# Altium footprint library spdt7101.PcbLib: 3 footprints
Each footprint in its own frame and in the unit in brackets; x right, y up, seen from the top. Pads: shape width x height; smd on the part's side, far side on the other; paste and mask are expansions set on the pad; w line width, h text height; cw(c..) or ccw(c..) is an arc to the next point about the centre after c.
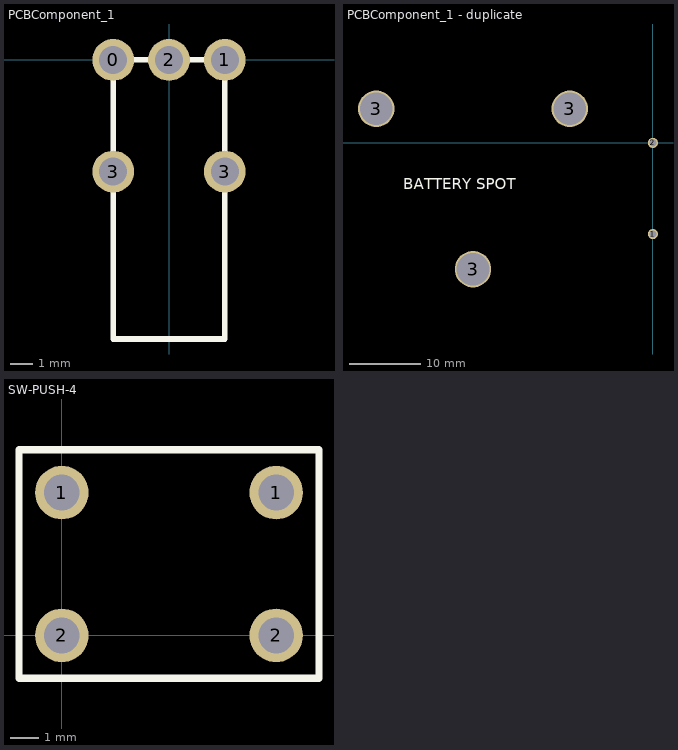
[diagram p0: the footprints below, top view; thin cyan lines are the x and y axes]

## PCBComponent_1 [mil]
pads (5):
  round 75 hole 50: 0(-100,0) 1(100,0) 2(0,0) 3(-100,-200) 3(100,-200)
Top Overlay:
  lines w10: -100,-500 -100,0 100,0 100,-300 100,-500 -100,-500

## PCBComponent_1 - duplicate [mil]
pads (5):
  round 56 hole 40: 1(0,-500) 2(0,0)
  round 200 hole 180: 3(-1518,187) 3(-987,-693) 3(-456,187)
Top Overlay:
  text "BATTERY SPOT" at -1370,-255 h60

## SW-PUSH-4 [mil]
pads (4):
  round 75 hole 50: 1(0,200) 1(300,200) 2(0,0) 2(300,0)
Top Overlay:
  lines w10: -60,-60 360,-60 360,260 -60,260 -60,-60